# Altium schematic symbol library Schlib1.SchLib: 6 symbols
Pins are listed as number, name and electrical type; pins without a type are passive.

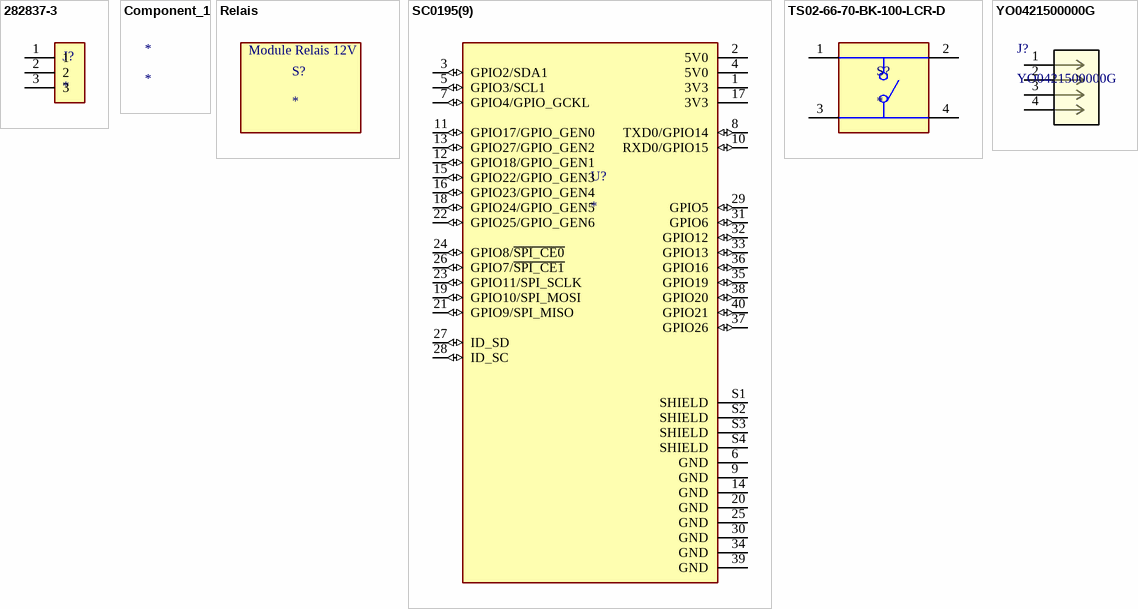
[diagram p0: symbols 282837-3 to YO0421500000G]

## 282837-3
designator J?
TERMI-BLOK PCB MOUNT 3P; MP: 282837-3; Availability: Unavailable; Package: None; Value: *; Price: None
footprint TE_282837-3
pins: 1, 2, 3

## Component_1
designator *

## Relais
designator S?
6 x 6 mm, 7 mm Actuator Height, 100 gf, Black, Long Crimped, Through Hole, SPST, Tactile Switch; MF: Same Sky; MP: TS02-66-70-BK-100-LCR-D; SnapEDA_Link: https://www.snapeda.com/parts/TS02-66-70-BK-100-LCR-D/Same+Sky/view-part/?ref=snap; Package: None; Value: *; Check_prices: https://www.snapeda.com/parts/TS02-66-70-BK-100-LCR-D/Same+Sky/view-part/?ref=eda
footprint BOOSTER12V
text: Module Relais 12V

## SC0195(9)
designator U?
The Raspberry Pi 4 Model B SC0195-9 single board computer features a powerful Broadcom BCM2711 ARM Cortex-A72 processor with 1.5GHz speed and four cores, making it ideal for demanding embedded computing applications. With 8GB of RAM and a compact size of; MP: SC0195(9); SnapEDA_Link: https://www.snapeda.com/parts/SC0195(9)/Raspberry+Pi/view-part/?ref=snap; Package: None; Value: *; MF: Raspberry Pi; Check_prices: https://www.snapeda.com/parts/SC0195(9)/Raspberry+Pi/view-part/?ref=eda
footprint MODULE_SC0195(9)
pins: 1 3V3 (power), 2 5V0 (power), 3 GPIO2/SDA1 (io), 4 5V0 (power), 5 GPIO3/SCL1 (io), 6 GND (power), 7 GPIO4/GPIO_GCKL (io), 8 TXD0/GPIO14 (io), 9 GND (power), 10 RXD0/GPIO15 (io), 11 GPIO17/GPIO_GEN0 (io), 12 GPIO18/GPIO_GEN1 (io), 13 GPIO27/GPIO_GEN2 (io), 14 GND (power), 15 GPIO22/GPIO_GEN3 (io), 16 GPIO23/GPIO_GEN4 (io), 17 3V3 (power), 18 GPIO24/GPIO_GEN5 (io), 19 GPIO10/SPI_MOSI (io), 20 GND (power), 21 GPIO9/SPI_MISO (io), 22 GPIO25/GPIO_GEN6 (io), 23 GPIO11/SPI_SCLK (io), 24 GPIO8/~{SPI_CE0} (io), 25 GND (power), 26 GPIO7/~{SPI_CE1} (io), 27 ID_SD (io), 28 ID_SC (io), 29 GPIO5 (io), 30 GND (power), 31 GPIO6 (io), 32 GPIO12 (io), 33 GPIO13 (io), 34 GND (power), 35 GPIO19 (io), 36 GPIO16 (io), 37 GPIO26 (io), 38 GPIO20 (io), 39 GND (power), 40 GPIO21 (io), S1 SHIELD (power), S2 SHIELD (power), S3 SHIELD (power), S4 SHIELD (power)

## TS02-66-70-BK-100-LCR-D
designator S?
6 x 6 mm, 7 mm Actuator Height, 100 gf, Black, Long Crimped, Through Hole, SPST, Tactile Switch; MF: Same Sky; MP: TS02-66-70-BK-100-LCR-D; SnapEDA_Link: https://www.snapeda.com/parts/TS02-66-70-BK-100-LCR-D/Same+Sky/view-part/?ref=snap; Package: None; Value: *; Check_prices: https://www.snapeda.com/parts/TS02-66-70-BK-100-LCR-D/Same+Sky/view-part/?ref=eda
footprint SW_TS02-66-70-BK-100-LCR-D
pins: 1, 2, 3, 4

## YO0421500000G
designator J?
No Description Available; Manufacturer_Name: Amphenol ICC; Copyright: Copyright (C) 2025 Ultra Librarian. All rights reserved.; Manufacturer_Part_Number: YO0421500000G; RefDes: RefDes; Type: Type
footprint CONN4_500000G_AMP
pins: 1, 2, 3, 4